# Altium footprint library ElectronicSwitch_Footprints.PcbLib: 2 footprints
Each footprint in its own frame and in the unit in brackets; x right, y up, seen from the top. Pads: shape width x height; smd on the part's side, far side on the other; paste and mask are expansions set on the pad; w line width, h text height; cw(c..) or ccw(c..) is an arc to the next point about the centre after c.
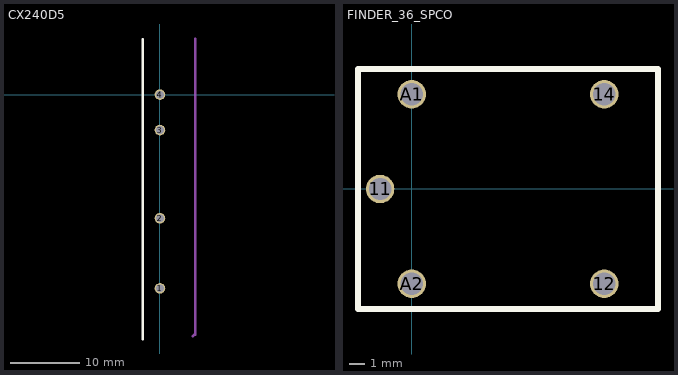
[diagram p0: the footprints below, top view; thin cyan lines are the x and y axes]

## CX240D5 [mil] "Footprint for CX240D5 SSR"
pads (4):
  round 60 hole 43.31: 1(0,-1098.43) 2(0,-700.79) 3(0,-200.79) 4(0,0)
Top Overlay:
  lines w15: -98.43,-1385 -98.43,311.85
Mechanical 11:
  lines w15: 185,-1370 195,-1360 ; 200.79,-1360 200.79,315

## FINDER_36_SPCO [mil] "Finder 36 series SPCO layout"
pads (5):
  round 71 hole 56: 11(-78.74,0) 12(480.31,-236.22) 14(480.31,236.22) A1(0,236.22) A2(0,-236.22)
Top Overlay:
  lines w15: -133.86,-299.21 -133.86,299.21 614.17,299.21 614.17,-299.21 -133.86,-299.21 ; -133.86,-299.21 -133.86,-299.21